# EAGLE library part EP4CE6E22 (library altera)
EP4CE6 edit this description Auto generated by make-symbol-device-package-bsdl.ulp Rev. 44 Source: EP4CE6.txt
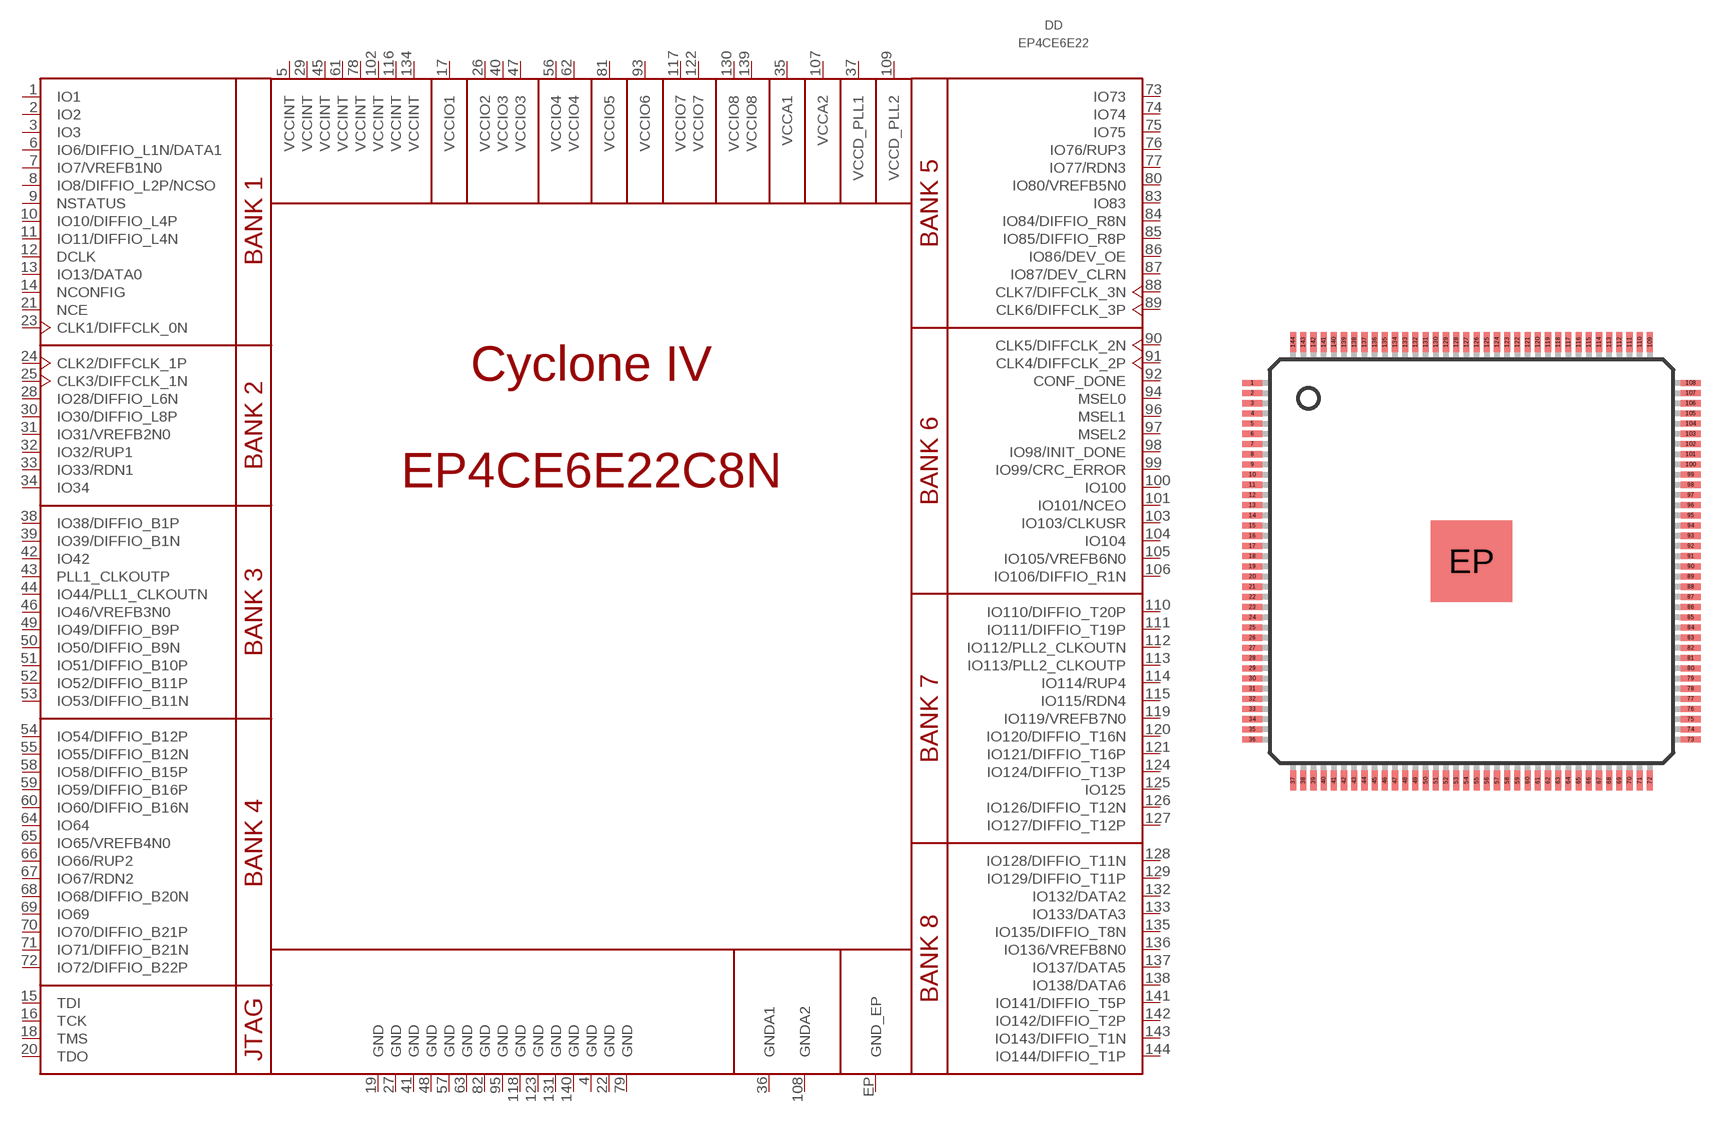
[diagram p7: symbol with the pads of EQFP144; footprint EQFP144]

Designator prefix DD

## EP4CE6E22C8N  [EQFP144]
1  IO1
2  IO2
3  IO3
4  GND  pwr
5  VCCINT  pwr
6  IO6/DIFFIO_L1N/DATA1
7  IO7/VREFB1N0
8  IO8/DIFFIO_L2P/NCSO
9  NSTATUS  out
10  IO10/DIFFIO_L4P
11  IO11/DIFFIO_L4N
12  DCLK  in
13  IO13/DATA0
14  NCONFIG  in
15  TDI  in
16  TCK  in
17  VCCIO1  pwr
18  TMS  in
19  GND  pwr
20  TDO  out
21  NCE  in
22  GND  pwr
23  CLK1/DIFFCLK_0N  in
24  CLK2/DIFFCLK_1P  in
25  CLK3/DIFFCLK_1N  in
26  VCCIO2  pwr
27  GND  pwr
28  IO28/DIFFIO_L6N
29  VCCINT  pwr
30  IO30/DIFFIO_L8P
31  IO31/VREFB2N0
32  IO32/RUP1
33  IO33/RDN1
34  IO34
35  VCCA1  pwr
36  GNDA1  pwr
37  VCCD_PLL1  pwr
38  IO38/DIFFIO_B1P
39  IO39/DIFFIO_B1N
40  VCCIO3  pwr
41  GND  pwr
42  IO42
43  PLL1_CLKOUTP
44  IO44/PLL1_CLKOUTN
45  VCCINT  pwr
46  IO46/VREFB3N0
47  VCCIO3  pwr
48  GND  pwr
49  IO49/DIFFIO_B9P
50  IO50/DIFFIO_B9N
51  IO51/DIFFIO_B10P
52  IO52/DIFFIO_B11P
53  IO53/DIFFIO_B11N
54  IO54/DIFFIO_B12P
55  IO55/DIFFIO_B12N
56  VCCIO4  pwr
57  GND  pwr
58  IO58/DIFFIO_B15P
59  IO59/DIFFIO_B16P
60  IO60/DIFFIO_B16N
61  VCCINT  pwr
62  VCCIO4  pwr
63  GND  pwr
64  IO64
65  IO65/VREFB4N0
66  IO66/RUP2
67  IO67/RDN2
68  IO68/DIFFIO_B20N
69  IO69
70  IO70/DIFFIO_B21P
71  IO71/DIFFIO_B21N
72  IO72/DIFFIO_B22P
73  IO73
74  IO74
75  IO75
76  IO76/RUP3
77  IO77/RDN3
78  VCCINT  pwr
79  GND  pwr
80  IO80/VREFB5N0
81  VCCIO5  pwr
82  GND  pwr
83  IO83
84  IO84/DIFFIO_R8N
85  IO85/DIFFIO_R8P
86  IO86/DEV_OE
87  IO87/DEV_CLRN
88  CLK7/DIFFCLK_3N  in
89  CLK6/DIFFCLK_3P  in
90  CLK5/DIFFCLK_2N  in
91  CLK4/DIFFCLK_2P  in
92  CONF_DONE  out
93  VCCIO6  pwr
94  MSEL0  in
95  GND  pwr
96  MSEL1  in
97  MSEL2  in
98  IO98/INIT_DONE
99  IO99/CRC_ERROR
100  IO100
101  IO101/NCEO
102  VCCINT  pwr
103  IO103/CLKUSR
104  IO104
105  IO105/VREFB6N0
106  IO106/DIFFIO_R1N
107  VCCA2  pwr
108  GNDA2  pwr
109  VCCD_PLL2  pwr
110  IO110/DIFFIO_T20P
111  IO111/DIFFIO_T19P
112  IO112/PLL2_CLKOUTN
113  IO113/PLL2_CLKOUTP
114  IO114/RUP4
115  IO115/RDN4
116  VCCINT  pwr
117  VCCIO7  pwr
118  GND  pwr
119  IO119/VREFB7N0
120  IO120/DIFFIO_T16N
121  IO121/DIFFIO_T16P
122  VCCIO7  pwr
123  GND  pwr
124  IO124/DIFFIO_T13P
125  IO125
126  IO126/DIFFIO_T12N
127  IO127/DIFFIO_T12P
128  IO128/DIFFIO_T11N
129  IO129/DIFFIO_T11P
130  VCCIO8  pwr
131  GND  pwr
132  IO132/DATA2
133  IO133/DATA3
134  VCCINT  pwr
135  IO135/DIFFIO_T8N
136  IO136/VREFB8N0
137  IO137/DATA5
138  IO138/DATA6
139  VCCIO8  pwr
140  GND  pwr
141  IO141/DIFFIO_T5P
142  IO142/DIFFIO_T2P
143  IO143/DIFFIO_T1N
144  IO144/DIFFIO_T1P
EP  GND_EP  pwr

## Footprint EQFP144 (pad centres in mm)
EQFP144 Source: http://www.altera.com/literature/ds/144-EQFP.pdf
smd 1 x 0.3: 1 -10.75,8.75; 2 -10.75,8.25; 3 -10.75,7.75; 4 -10.75,7.25; 5 -10.75,6.75; 6 -10.75,6.25; 7 -10.75,5.75; 8 -10.75,5.25; 9 -10.75,4.75; 10 -10.75,4.25; 11 -10.75,3.75; 12 -10.75,3.25; 13 -10.75,2.75; 14 -10.75,2.25; 15 -10.75,1.75; 16 -10.75,1.25; 17 -10.75,0.75; 18 -10.75,0.25; 19 -10.75,-0.25; 20 -10.75,-0.75; 21 -10.75,-1.25; 22 -10.75,-1.75; 23 -10.75,-2.25; 24 -10.75,-2.75; 25 -10.75,-3.25; 26 -10.75,-3.75; 27 -10.75,-4.25; 28 -10.75,-4.75; 29 -10.75,-5.25; 30 -10.75,-5.75; 31 -10.75,-6.25; 32 -10.75,-6.75; 33 -10.75,-7.25; 34 -10.75,-7.75; 35 -10.75,-8.25; 36 -10.75,-8.75; 73 10.75,-8.75; 74 10.75,-8.25; 75 10.75,-7.75; 76 10.75,-7.25; 77 10.75,-6.75; 78 10.75,-6.25; 79 10.75,-5.75; 80 10.75,-5.25; 81 10.75,-4.75; 82 10.75,-4.25; 83 10.75,-3.75; 84 10.75,-3.25; 85 10.75,-2.75; 86 10.75,-2.25; 87 10.75,-1.75; 88 10.75,-1.25; 89 10.75,-0.75; 90 10.75,-0.25; 91 10.75,0.25; 92 10.75,0.75; 93 10.75,1.25; 94 10.75,1.75; 95 10.75,2.25; 96 10.75,2.75; 97 10.75,3.25; 98 10.75,3.75; 99 10.75,4.25; 100 10.75,4.75; 101 10.75,5.25; 102 10.75,5.75; 103 10.75,6.25; 104 10.75,6.75; 105 10.75,7.25; 106 10.75,7.75; 107 10.75,8.25; 108 10.75,8.75
smd 0.3 x 1: 37 -8.75,-10.75; 38 -8.25,-10.75; 39 -7.75,-10.75; 40 -7.25,-10.75; 41 -6.75,-10.75; 42 -6.25,-10.75; 43 -5.75,-10.75; 44 -5.25,-10.75; 45 -4.75,-10.75; 46 -4.25,-10.75; 47 -3.75,-10.75; 48 -3.25,-10.75; 49 -2.75,-10.75; 50 -2.25,-10.75; 51 -1.75,-10.75; 52 -1.25,-10.75; 53 -0.75,-10.75; 54 -0.25,-10.75; 55 0.25,-10.75; 56 0.75,-10.75; 57 1.25,-10.75; 58 1.75,-10.75; 59 2.25,-10.75; 60 2.75,-10.75; 61 3.25,-10.75; 62 3.75,-10.75; 63 4.25,-10.75; 64 4.75,-10.75; 65 5.25,-10.75; 66 5.75,-10.75; 67 6.25,-10.75; 68 6.75,-10.75; 69 7.25,-10.75; 70 7.75,-10.75; 71 8.25,-10.75; 72 8.75,-10.75; 109 8.75,10.75; 110 8.25,10.75; 111 7.75,10.75; 112 7.25,10.75; 113 6.75,10.75; 114 6.25,10.75; 115 5.75,10.75; 116 5.25,10.75; 117 4.75,10.75; 118 4.25,10.75; 119 3.75,10.75; 120 3.25,10.75; 121 2.75,10.75; 122 2.25,10.75; 123 1.75,10.75; 124 1.25,10.75; 125 0.75,10.75; 126 0.25,10.75; 127 -0.25,10.75; 128 -0.75,10.75; 129 -1.25,10.75; 130 -1.75,10.75; 131 -2.25,10.75; 132 -2.75,10.75; 133 -3.25,10.75; 134 -3.75,10.75; 135 -4.25,10.75; 136 -4.75,10.75; 137 -5.25,10.75; 138 -5.75,10.75; 139 -6.25,10.75; 140 -6.75,10.75; 141 -7.25,10.75; 142 -7.75,10.75; 143 -8.25,10.75; 144 -8.75,10.75
smd 4 x 4: EP 0,0